# Altium integrated library HL Светодиоды_V2.3 BVI.IntLib: 83 symbols
Pins are listed as number, name and electrical type; pins without a type are passive.

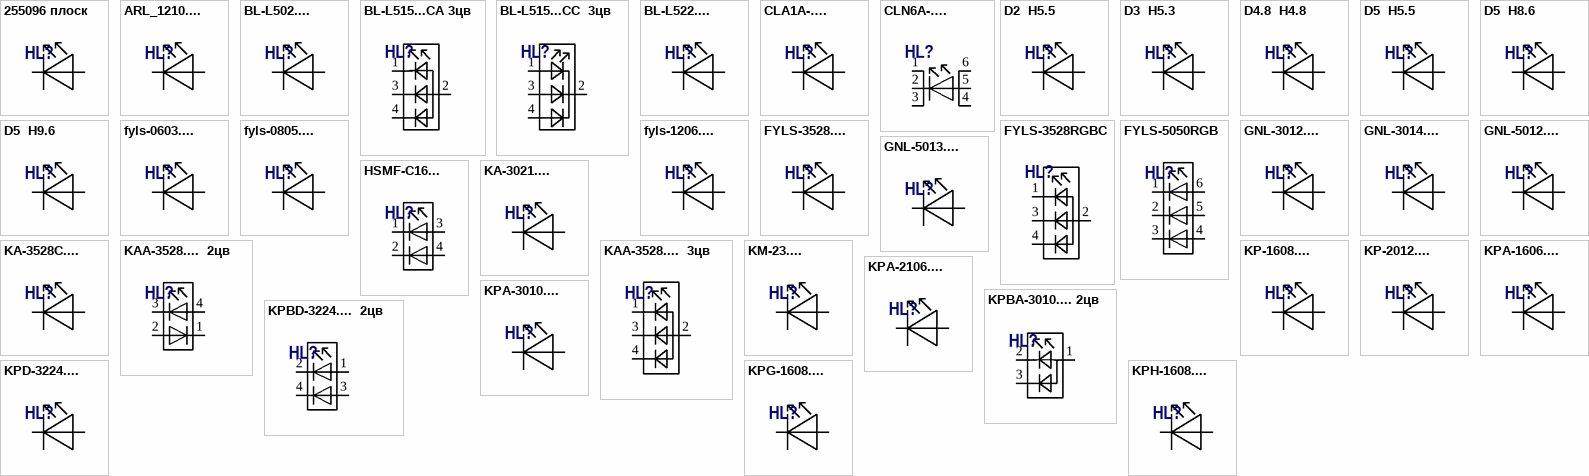
[diagram p0: symbols 255096 плоск to KPH-1608....]

## 255096 плоск
designator HL?, comment ???  (value not drawn)
Св. д. плоский 2.5 х 5.0 х 9.6
footprint СД_255096_YX бел (Св. д. 5 x 2.5 мм бел)
footprint СД_255096_YX жел (Св. д. 5 x 2.5 мм жел.)
footprint СД_255096_YX зел (Св. д. 5 x 2.5 мм зел.)
footprint СД_255096_YX кр (Св. д. 5 x 2.5 мм кр.)
footprint СД_255096_YX оран (Св. д. 5 x 2.5 мм оран)
footprint СД_255096_YZ бел (Св. д. 5 x 2.5 мм бел)
footprint СД_255096_YZ жел (Св. д. 5 x 2.5 мм жел.)
footprint СД_255096_YZ зел (Св. д. 5 x 2.5 мм зел.)
footprint СД_255096_YZ кр (Св. д. 5 x 2.5 мм кр.)
footprint СД_255096_YZ оран (Св. д. 5 x 2.5 мм оран)
footprint СД_255096_Z бел (Св. д. 5 x 2.5 мм бел)
footprint СД_255096_Z жел (Св. д. 5 x 2.5 мм жел.)
footprint СД_255096_Z зел (Св. д. 5 x 2.5 мм зел.)
footprint СД_255096_Z кр (Св. д. 5 x 2.5 мм кр.)
footprint СД_255096_Z оран (Св. д. 5 x 2.5 мм оран)
pins: 1 K, 2 A

## ARL_1210....
designator HL?, comment ARL-1210???  (value not drawn)
Св. д. ЧИП 3528
footprint СД_SMD 3528_140 (Светодиод SMD_3528_2к)
pins: 1 K, 2 A

## BL-L502....
designator HL?, comment BL-L502???  (value not drawn)
Св. д. D5 H8.6
footprint СД_D5_8.6_Y бел (Светодиод белый D5 H8.6  горизонт.)
footprint СД_D5_8.6_Z бел (Светодиод белый D5 H8.6  вертик.)
pins: 1 K, 2 A

## BL-L515...CA 3цв
designator HL?, comment BL-L515???  (value not drawn)
Св. д. D5 H8.6 RGB. Общ. анод
footprint СД_(BL-L515RGB)_Y (Св. д. 3 цвета)
footprint СД_(BL-L515RGB)_Z (Св. д. 3 цвета)
pins: 1 К1, 2 А, 3 К2, 4 К3

## BL-L515...CC  3цв
designator HL?, comment BL-L515???  (value not drawn)
Св. д. D5 H8.6 RGB. Общ. катод
footprint СД_(BL-L515RGB)_Y (Св. д. 3 цвета)
footprint СД_(BL-L515RGB)_Z (Св. д. 3 цвета)
pins: 1 A1, 2 K, 3 A2, 4 A3

## BL-L522....
designator HL?, comment BL-L522???  (value not drawn)
Св. д. D5 H8.6
footprint СД_D5_8.6_Y бел (Светодиод белый D5 H8.6  горизонт.)
footprint СД_D5_8.6_Z бел (Светодиод белый D5 H8.6  вертик.)
pins: 1 K, 2 A

## CLA1A-….
designator HL?, comment CLA1A-???  (value not drawn)
Св. д. ЧИП 3528  4 контакта
footprint СД_SMD 3528_190 4к 1ц (Светодиод SMD_3528_4к)
pins: 2 A, 4 K

## CLN6A-….
designator HL?, comment CLN6A-???  (value not drawn)
Св. д. ЧИП 5050  6 контактов
footprint СД_SMD 5050_6к 1д (Светодиод SMD_5050_6к)
pins: 1 K, 2 K, 3 K, 4 A, 5 A, 6 A

## D2  H5.5
designator HL?, comment ???  (value not drawn)
Св. д. D2 H5.5
footprint СД_D2_5.5_Y жел (Св. д. D2 мм жел.)
footprint СД_D2_5.5_Y зел (Св. д. D2 мм зел.)
footprint СД_D2_5.5_Y кр (Св. д. D2 мм кр.)
footprint СД_D2_5.5_Z жел (Св. д. D2 мм жел.)
footprint СД_D2_5.5_Z зел (Св. д. D2 мм зел.)
footprint СД_D2_5.5_Z кр (Св. д. D2 мм кр.)
pins: 1 K, 2 A

## D3  H5.3
designator HL?, comment ???  (value not drawn)
Св. д. D3 H5
footprint СД_D3_5.3_Z бел (Св. д.  D3 H5,3 бел.)
footprint СД_D3_5.3_Z жел (Св. д.  D3 H5,3 жел.)
footprint СД_D3_5.3_Z зел (Св. д.  D3 H5,3 зел.)
footprint СД_D3_5.3_Z кр (Св. д.  D3 H5,3 кр.)
footprint СД_D3_5.3_Z оран (Св. д.  D3 H5,3 оран.)
footprint СД_D3_5.3_Z син (Св. д.  D3 H5,3 син.)
footprint СД_D3_5.3_Y бел (Св. д.  D3 H5.3 бел.)
footprint СД_D3_5.3_Y жел (Св. д.  D3 H5.3 жел.)
footprint СД_D3_5.3_Y зел (Св. д.  D3 H5.3 зел.)
footprint СД_D3_5.3_Y кр (Св. д.  D3 H5.3 кр.)
footprint СД_D3_5.3_Y оран (Св. д.  D3 H5.3 оран.)
footprint СД_D3_5.3_Y син (Св. д.  D3 H5.3 син.)
pins: 1 K, 2 A

## D4.8  H4.8
designator HL?, comment ???  (value not drawn)
Св. д. D4.8  H4.8
footprint СД_D4.8_4.8_Y бел (Св. д.  D4.8 H4.8 бел)
footprint СД_D4.8_4.8_Y жел (Св. д.  D4.8 H4.8 жел)
footprint СД_D4.8_4.8_Y зел (Св. д.  D4.8 H4.8 зел)
footprint СД_D4.8_4.8_Y кр (Св. д.  D4.8 H4.8 кр)
footprint СД_D4.8_4.8_Y оран (Св. д.  D4.8 H4.8 оран)
footprint СД_D4.8_4.8_Y син (Св. д.  D4.8 H4.8 син)
footprint СД_D4.8_4.8_Z бел (Св. д.  D4.8 H4.8 бел)
footprint СД_D4.8_4.8_Z жел (Св. д.  D4.8 H4.8 жел)
footprint СД_D4.8_4.8_Z зел (Св. д.  D4.8 H4.8 зел)
footprint СД_D4.8_4.8_Z кр (Св. д.  D4.8 H4.8 кр)
footprint СД_D4.8_4.8_Z оран (Св. д.  D4.8 H4.8 оран)
footprint СД_D4.8_4.8_Z син (Св. д.  D4.8 H4.8 син)
pins: 1 K, 2 A

## D5  H5.5
designator HL?, comment ???  (value not drawn)
Св. д. D5 H5.5
footprint СД_D5_5.5_Y бел (Светодиод синий D5 H8.6  вертик.)
footprint СД_D5_5.5_Y жел (Светодиод синий D5 H8.6  вертик.)
footprint СД_D5_5.5_Y зел (Светодиод синий D5 H8.6  вертик.)
footprint СД_D5_5.5_Y кр (Светодиод синий D5 H8.6  вертик.)
footprint СД_D5_5.5_Y оран (Светодиод синий D5 H8.6  вертик.)
footprint СД_D5_5.5_Y син (Светодиод синий D5 H8.6  вертик.)
footprint СД_D5_5.5_Z бел (Светодиод синий D5 H8.6  вертик.)
footprint СД_D5_5.5_Z жел (Светодиод синий D5 H8.6  вертик.)
footprint СД_D5_5.5_Z зел (Светодиод синий D5 H8.6  вертик.)
footprint СД_D5_5.5_Z кр (Светодиод синий D5 H8.6  вертик.)
footprint СД_D5_5.5_Z оран (Светодиод синий D5 H8.6  вертик.)
footprint СД_D5_5.5_Z син (Светодиод синий D5 H8.6  вертик.)
pins: 1 K, 2 A

## D5  H8.6
designator HL?, comment ???  (value not drawn)
Св. д. D5 H8.6
footprint СД_D5_8.6_Y бел (Светодиод белый D5 H8.6  горизонт.)
footprint СД_D5_8.6_Y жел (Светодиод желт. D5 H8.6  горизонт.)
footprint СД_D5_8.6_Y зел (Светодиод зелёный D5 H8.6  горизонт.)
footprint СД_D5_8.6_Y кр (Светодиод красный D5 H8.6  горизонт.)
footprint СД_D5_8.6_Y оран (Светодиод оранж. D5 H8.6  горизонт.)
footprint СД_D5_8.6_Y син (Светодиод синий D5 H8.6  горизонт.)
footprint СД_D5_8.6_Z бел (Светодиод белый D5 H8.6  вертик.)
footprint СД_D5_8.6_Z жел (Светодиод желт. D5 H8.6  вертик.)
footprint СД_D5_8.6_Z зел (Светодиод зел. D5 H8.6  вертик.)
footprint СД_D5_8.6_Z кр (Светодиод красн. D5 H8.6  вертик.)
footprint СД_D5_8.6_Z оран (Светодиод оранж. D5 H8.6  вертик.)
footprint СД_D5_8.6_Z син (Светодиод синий D5 H8.6  вертик.)
pins: 1 K, 2 A

## D5  H9.6
designator HL?, comment ???  (value not drawn)
Св. д. D5 H9.6
footprint СД_D5_9.6_Y бел (Св. д.  D5 H9.6  бел)
footprint СД_D5_9.6_Y жел (Св. д.  D5 H9.6  жел)
footprint СД_D5_9.6_Y зел (Св. д.  D5 H9.6  зел)
footprint СД_D5_9.6_Y кр (Св. д.  D5 H9.6  кр)
footprint СД_D5_9.6_Y оран (Св. д.  D5 H9.6  оран)
footprint СД_D5_9.6_Z бел (Св. д.  D5 H9.6  бел)
footprint СД_D5_9.6_Z жел (Св. д.  D5 H9.6  жел)
footprint СД_D5_9.6_Z зел (Св. д.  D5 H9.6  зел)
footprint СД_D5_9.6_Z кр (Св. д.  D5 H9.6  кр)
footprint СД_D5_9.6_Z оран (Св. д.  D5 H9.6  оран)
pins: 1 K, 2 A

## fyls-0603....
designator HL?, comment fyls-0603???  (value not drawn)
Св. д. ЧИП 1608 (0603)
footprint СД_SMD 1608_080
pins: 1 K, 2 A

## fyls-0805....
designator HL?, comment fyls-0805???  (value not drawn)
Св. д. ЧИП 2012 (0805)
footprint СД_SMD 2012_110
pins: 1 K, 2 A

## fyls-1206....
designator HL?, comment fyls-1206???  (value not drawn)
Св. д. ЧИП 3216 (1206)
footprint СД_SMD 3216_110
pins: 1 K, 2 A

## FYLS-3528....
designator HL?, comment FYLS-3528???  (value not drawn)
Св. д. ЧИП 3528
footprint СД_SMD 3528_140 (Светодиод SMD_3528_2к)
pins: 1 K, 2 A

## FYLS-3528RGBC
designator HL?  (value not drawn)
Св. д. ЧИП 3528 RGB. Общ. анод
footprint СД_SMD 3528_190 4к 3ц (Светодиод SMD_3528_4к)
pins: 1 K1, 2 A, 3 K2, 4 K3

## FYLS-5050RGB
designator HL?  (value not drawn)
Св. д. ЧИП 5050  3цв  6 контактов
footprint СД_SMD 5050_6к_3д (Светодиод SMD_5050_6к)
pins: 1 К1, 2 К2, 3 К3, 4 А3, 5 А2, 6 А1

## GNL-3012....
designator HL?, comment GNL-3012???  (value not drawn)
Св. д. D3 H5
footprint СД_D3_5.3_Z жел (Св. д.  D3 H5,3 жел.)
footprint СД_D3_5.3_Z зел (Св. д.  D3 H5,3 зел.)
footprint СД_D3_5.3_Z кр (Св. д.  D3 H5,3 кр.)
footprint СД_D3_5.3_Z оран (Св. д.  D3 H5,3 оран.)
footprint СД_D3_5.3_Y жел (Св. д.  D3 H5.3 жел.)
footprint СД_D3_5.3_Y зел (Св. д.  D3 H5.3 зел.)
footprint СД_D3_5.3_Y кр (Св. д.  D3 H5.3 кр.)
footprint СД_D3_5.3_Y оран (Св. д.  D3 H5.3 оран.)
pins: 1 K, 2 A

## GNL-3014....
designator HL?, comment GNL-3014???  (value not drawn)
Св. д. D3 H5
footprint СД_D3_5.3_Z жел (Св. д.  D3 H5.3 жел.)
footprint СД_D3_5.3_Z зел (Св. д.  D3 H5.3 зел.)
footprint СД_D3_5.3_Z кр (Св. д.  D3 H5.3 кр.)
footprint СД_D3_5.3_Z оран (Св. д.  D3 H5.3 оран.)
footprint СД_D3_5.3_Z бел (Св. д.  D3 H5.3 бел.)
footprint СД_D3_5.3_Y бел (Св. д.  D3 H5.3 бел.)
footprint СД_D3_5.3_Y жел (Св. д.  D3 H5.3 жел.)
footprint СД_D3_5.3_Y зел (Св. д.  D3 H5.3 зел.)
footprint СД_D3_5.3_Y кр (Св. д.  D3 H5.3 кр.)
footprint СД_D3_5.3_Y оран (Св. д.  D3 H5.3 оран.)
pins: 1 K, 2 A

## GNL-5012....
designator HL?, comment GNL-5012???  (value not drawn)
Св. д. D5 H8.6
footprint СД_D5_8.6_Y жел (Светодиод желт. D5 H8.6  горизонт.)
footprint СД_D5_8.6_Y зел (Светодиод зелёный D5 H8.6  горизонт.)
footprint СД_D5_8.6_Y кр (Светодиод красный D5 H8.6  горизонт.)
footprint СД_D5_8.6_Y оран (Светодиод оранж. D5 H8.6  горизонт.)
footprint СД_D5_8.6_Z жел (Светодиод желт. D5 H8.6  вертик.)
footprint СД_D5_8.6_Z зел (Светодиод зел. D5 H8.6  вертик.)
footprint СД_D5_8.6_Z кр (Светодиод красн. D5 H8.6  вертик.)
footprint СД_D5_8.6_Z оран (Светодиод оранж. D5 H8.6  вертик.)
pins: 1 K, 2 A

## GNL-5013....
designator HL?, comment GNL-5013???  (value not drawn)
Св. д. D5 H8.6
footprint СД_D5_8.6_Y жел (Светодиод желт. D5 H8.6  горизонт.)
footprint СД_D5_8.6_Y зел (Светодиод зелёный D5 H8.6  горизонт.)
footprint СД_D5_8.6_Y кр (Светодиод красный D5 H8.6  горизонт.)
footprint СД_D5_8.6_Y оран (Светодиод оранж. D5 H8.6  горизонт.)
footprint СД_D5_8.6_Z жел (Светодиод желт. D5 H8.6  вертик.)
footprint СД_D5_8.6_Z зел (Светодиод зел. D5 H8.6  вертик.)
footprint СД_D5_8.6_Z кр (Светодиод красн. D5 H8.6  вертик.)
footprint СД_D5_8.6_Z оран (Светодиод оранж. D5 H8.6  вертик.)
pins: 1 K, 2 A

## HSMF-C16...
designator HL?, comment HSMF-C16???  (value not drawn)
Св. д. ЧИП 1608  2цв  4 конт
footprint СД_SMD 1608_050 4к
pins: 1 К1, 2 К2, 3 А1, 4 А2

## KA-3021....
designator HL?, comment KA-3021???  (value not drawn)
Св. д. ЧИП 3020
footprint СД_SMD 3020_130
pins: 1 K, 2 A

## KA-3528C....
designator HL?, comment KA-3528C???  (value not drawn)
Св. д. ЧИП 3528
footprint СД_SMD 3528_140 (Светодиод SMD_3528_2к)
pins: 1 K, 2 A

## KAA-3528....  2цв
designator HL?, comment KAA-3528???  (value not drawn)
Св. д. ЧИП 3528  2цв  4 конт
footprint СД_SMD 3528_190 4к 3ц (Светодиод SMD_3528_4к)
pins: 1 К2, 2 А2, 3 К1, 4 А1

## KAA-3528....  3цв
designator HL?, comment KAA-3528EMBSGCT  (value not drawn)
Св. д. ЧИП 3528 RGB. Общ. анод
footprint СД_SMD 3528_190 4к 3ц (Светодиод SMD_3528_4к)
pins: 1 K1, 2 A, 3 K2, 4 K3

## KM-23....
designator HL?, comment KM-23S???  (value not drawn)
Св. д. ЧИП SOT-23
footprint СД_SMD (SOT-23) (TO-236AB   SuperSOT-3   SOT-346   KT-46   SC-59   SMT3)
pins: 1 A, 3 K

## KP-1608....
designator HL?, comment KP-1608???  (value not drawn)
Св. д. ЧИП 1608
footprint СД_SMD 1608_075
pins: 1 K, 2 A

## KP-2012....
designator HL?, comment KP-2012???  (value not drawn)
Св. д. ЧИП 2012
footprint СД_SMD 1608_075
pins: 1 K, 2 A

## KPA-1606....
designator HL?, comment KPA-1606???  (value not drawn)
Св. д. ЧИП 1606
footprint СД_SMD 1606_120
pins: 1 K, 2 A

## KPA-2106....
designator HL?, comment KPA-2106???  (value not drawn)
Св. д. ЧИП 2106
footprint СД_SMD 2106_100
pins: 1 K, 2 A

## KPA-3010....
designator HL?, comment KPA-3010???  (value not drawn)
Св. д. ЧИП 3010
footprint СД_SMD 3010_200
pins: 1 K, 2 A

## KPBA-3010.... 2цв
designator HL?, comment KPBA-3010???  (value not drawn)
Св. д. ЧИП 3010  2цв.  3к
footprint СД_SMD 3010_200 3к
pins: 1 А, 2 К1, 3 К2

## KPBD-3224....  2цв
designator HL?, comment KPBD-3224???  (value not drawn)
Св. д. ЧИП 3224  2цв  4 конт
footprint СД_SMD 3224_240 4к
pins: 1 А1, 2 К1, 3 A2, 4 K2

## KPD-3224....
designator HL?, comment KPD-3224???  (value not drawn)
Св. д. ЧИП 3224
footprint СД_SMD 3224_240
pins: 1 K, 2 A

## KPG-1608....
designator HL?, comment KPG-1608???  (value not drawn)
Св. д. ЧИП 1608
footprint СД_SMD 1608_025
pins: 1 K, 2 A

## KPH-1608....
designator HL?, comment KPH-1608???  (value not drawn)
Св. д. ЧИП 1608
footprint СД_SMD 1608_065
pins: 1 K, 2 A

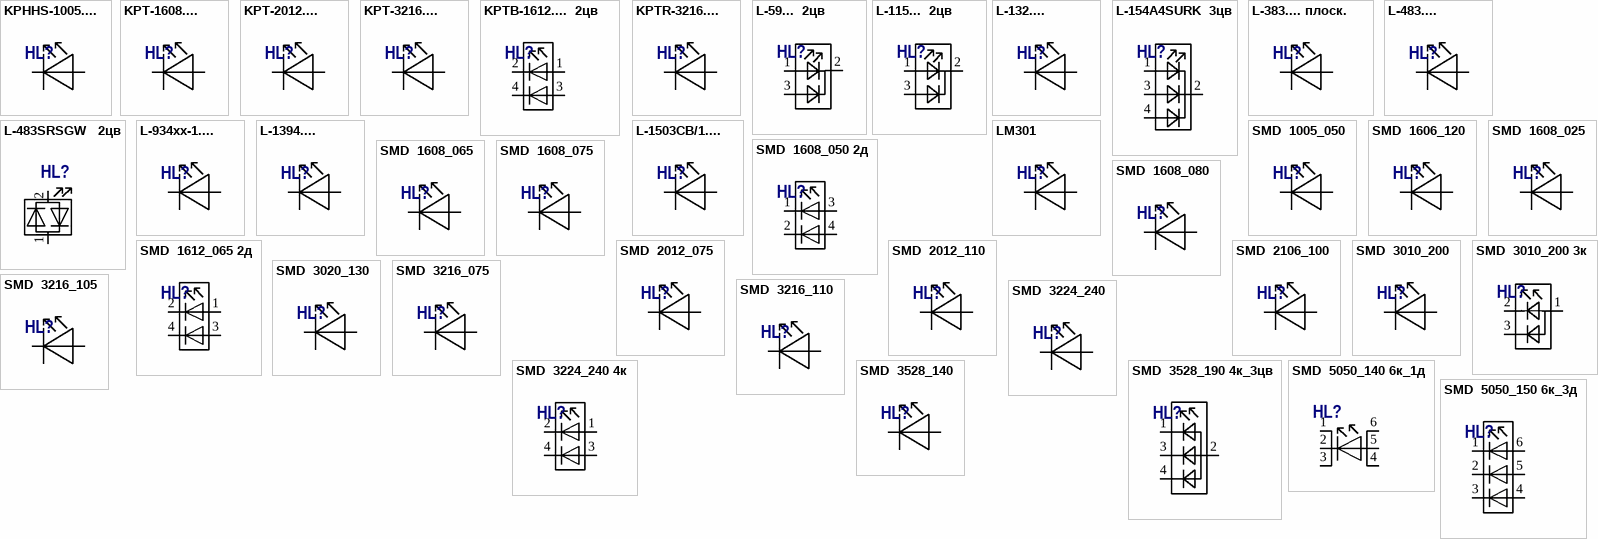
[diagram p1: symbols KPHHS-1005.... to SMD  5050_150 6к_3д]

## KPHHS-1005....
designator HL?, comment KPHHS-1005???  (value not drawn)
Св. д. ЧИП 1050
footprint СД_SMD 1005_050
pins: 1 K, 2 A

## KPT-1608....
designator HL?, comment KPT-1608???  (value not drawn)
Св. д. ЧИП 1608
footprint СД_SMD 1608_075
pins: 1 K, 2 A

## KPT-2012....
designator HL?, comment KPT-2012???  (value not drawn)
Св. д. ЧИП 2012
footprint СД_SMD 2012_075
pins: 1 K, 2 A

## KPT-3216....
designator HL?, comment KPT-3216???  (value not drawn)
Св. д. ЧИП 3216
footprint СД_SMD 3216_075
pins: 1 K, 2 A

## KPTB-1612....  2цв
designator HL?, comment KPTB-1612???  (value not drawn)
Св. д. ЧИП 1612  2цв  4 конт
footprint СД_SMD 1612_065 2д
pins: 1 А1, 2 К1, 3 A2, 4 K2

## KPTR-3216....
designator HL?, comment KPTR-3216???  (value not drawn)
Св. д. ЧИП 3216
footprint СД_SMD 3216_105
pins: 1 K, 2 A

## L-59...  2цв
designator HL?, comment L-59???  (value not drawn)
Св. д. D5 H8.6   2 цвета
footprint СД_D5_8.6_Y 3к (Св. д. 2 цвета)
footprint СД_D5_8.6_Z 3к (Св. д. 2 цвета)
pins: 1 A1, 2 K, 3 A2

## L-115...  2цв
designator HL?, comment L-115???  (value not drawn)
Св. д. D3 H5  2 цвета
footprint СД_(L-115xxx)_Y (Св. д. 2 цвета)
footprint СД_(L-115xxx)_Z (Св. д. 2 цвета)
pins: 1 A1, 2 K, 3 A2

## L-132....
designator HL?, comment L-132???  (value not drawn)
Св. д. D3 H5
footprint СД_(L-132XGх)_Y зел (Св. д. D3.5 мм зел.)
footprint СД_(L-132XGх)_Z зел (Св. д. D3.5 мм зел.)
footprint СД_(L-132XH [I] х)_Y кр (Св. д. D3.5 мм кр.)
footprint СД_(L-132XH [I] х)_Z кр (Св. д. D3.5 мм кр.)
footprint СД_(L-132XYх)_Y жел (Св. д. D3.5 мм жел)
footprint СД_(L-132XYх)_Z жел (Св. д. D3.5 мм жел)
pins: 1 K, 2 A

## L-154A4SURK  3цв
designator HL?, comment L-154A4SURK  (value not drawn)
Св. д. D5 H8.6 RGB. Общ. катод
footprint СД_(BL-L515RGB)_Y (Св. д. 3 цвета)
footprint СД_(BL-L515RGB)_Z (Св. д. 3 цвета)
pins: 1 A1, 2 K, 3 A2, 4 A3

## L-383.... плоск.
designator HL?, comment L-383???  (value not drawn)
Св. д. 2.5 х 5.0 х 9.6
footprint СД_255096_YX бел (Св. д. 5 x 2.5 мм бел)
footprint СД_255096_YX жел (Св. д. 5 x 2.5 мм жел.)
footprint СД_255096_YX зел (Св. д. 5 x 2.5 мм зел.)
footprint СД_255096_YX кр (Св. д. 5 x 2.5 мм кр.)
footprint СД_255096_YX оран (Св. д. 5 x 2.5 мм оран)
footprint СД_255096_YZ бел (Св. д. 5 x 2.5 мм бел)
footprint СД_255096_YZ жел (Св. д. 5 x 2.5 мм жел.)
footprint СД_255096_YZ зел (Св. д. 5 x 2.5 мм зел.)
footprint СД_255096_YZ кр (Св. д. 5 x 2.5 мм кр.)
footprint СД_255096_YZ оран (Св. д. 5 x 2.5 мм оран)
footprint СД_255096_Z бел (Св. д. 5 x 2.5 мм бел)
footprint СД_255096_Z жел (Св. д. 5 x 2.5 мм жел.)
footprint СД_255096_Z зел (Св. д. 5 x 2.5 мм зел.)
footprint СД_255096_Z кр (Св. д. 5 x 2.5 мм кр.)
footprint СД_255096_Z оран (Св. д. 5 x 2.5 мм оран)
pins: 1 K, 2 A

## L-483....
designator HL?, comment L-483???  (value not drawn)
Св. д. D5 H9.6
footprint СД_D5_9.6_Y жел (Св. д.  D5 H9.6  жел)
footprint СД_D5_9.6_Y зел (Св. д.  D5 H9.6  зел)
footprint СД_D5_9.6_Y кр (Св. д.  D5 H9.6  кр)
footprint СД_D5_9.6_Y оран (Св. д.  D5 H9.6  оран)
footprint СД_D5_9.6_Z жел (Св. д.  D5 H9.6  жел)
footprint СД_D5_9.6_Z зел (Св. д.  D5 H9.6  зел)
footprint СД_D5_9.6_Z кр (Св. д.  D5 H9.6  кр)
footprint СД_D5_9.6_Z оран (Св. д.  D5 H9.6  оран)
pins: 1 K, 2 A

## L-483SRSGW   2цв
designator HL?, comment L-483SRSGW  (value not drawn)
Св. д. D5 H9.6  2цв
footprint СД_D5_9.6_Y бел (Св. д.  D5 H9.6  бел)
footprint СД_D5_9.6_Z бел (Св. д.  D5 H9.6  бел)
pins: 1 АК1, 2 КА2

## L-934хх-1....
designator HL?, comment L-934хх-1???  (value not drawn)
Св. д. в корпусе
footprint СД_(L-934C (E) B_1GD) зел. (Св. д. Корпус зел.)
footprint СД_(L-934C (E) B_1ID) кр. (Св. д. Корпус кр.)
footprint СД_(L-934C (E) B_1YD) жел. (Св. д. Корпус жел.)
pins: 1 K, 2 A

## L-1394....
designator HL?, comment L-1394???  (value not drawn)
Св. д. D2 H5.5
footprint СД_D2_5.5_Y жел (Св. д. D2 мм жел.)
footprint СД_D2_5.5_Y зел (Св. д. D2 мм зел.)
footprint СД_D2_5.5_Y кр (Св. д. D2 мм кр.)
footprint СД_D2_5.5_Z жел (Св. д. D2 мм жел.)
footprint СД_D2_5.5_Z зел (Св. д. D2 мм зел.)
footprint СД_D2_5.5_Z кр (Св. д. D2 мм кр.)
pins: 1 K, 2 A

## L-1503CB/1....
designator HL?, comment L-1503CB/1???  (value not drawn)
Св. д. в корпусе
footprint СД_ (L-1503CB_1GD)_зел (Св. д. Корпус зел.)
footprint СД_ (L-1503CB_1ID)_кр (Св. д. Корпус кр.)
footprint СД_ (L-1503CB_1YD)_жел (Св. д. Корпус жел.)
pins: 1 K, 2 A

## LM301
designator HL?, comment ???  (value not drawn)
Светодиод повышенной яркости   LM301x   Series   Белый   120 °   40 лм   3000 K   200 мА
footprint СД_LM301 B
pins: 1 K, 2 A

## SMD  1005_050
designator HL?, comment ???  (value not drawn)
Св. д. ЧИП 1005  H0.5
footprint СД_SMD 1005_050
pins: 1 K, 2 A

## SMD  1606_120
designator HL?, comment ???  (value not drawn)
Св. д. ЧИП 1606
footprint СД_SMD 1606_120
pins: 1 K, 2 A

## SMD  1608_025
designator HL?, comment ???  (value not drawn)
Св. д. ЧИП 1608 (0603)
footprint СД_SMD 1608_025
pins: 1 K, 2 A

## SMD  1608_050 2д
designator HL?, comment ???  (value not drawn)
Св. д. ЧИП 1608  2цв  4 конт
footprint СД_SMD 1608_050 4к
pins: 1 К1, 2 К2, 3 А1, 4 А2

## SMD  1608_065
designator HL?, comment ???  (value not drawn)
Св. д. ЧИП 1608 (0603)
footprint СД_SMD 1608_065
pins: 1 K, 2 A

## SMD  1608_075
designator HL?, comment ???  (value not drawn)
Св. д. ЧИП 1608 (0603)
footprint СД_SMD 1608_075
pins: 1 K, 2 A

## SMD  1608_080
designator HL?, comment ???  (value not drawn)
Св. д. ЧИП 1608 (0603)
footprint СД_SMD 1608_080
pins: 1 K, 2 A

## SMD  1612_065 2д
designator HL?, comment ???  (value not drawn)
Св. д. ЧИП 1612  2цв  4 конт
footprint СД_SMD 1612_065 2д
pins: 1 А1, 2 К1, 3 К2, 4 А2

## SMD  2012_075
designator HL?, comment ???  (value not drawn)
Св. д. ЧИП 2012
footprint СД_SMD 2012_075
pins: 1 K, 2 A

## SMD  2012_110
designator HL?, comment ???  (value not drawn)
Св. д. ЧИП 2012 (0805)
footprint СД_SMD 2012_110
pins: 1 K, 2 A

## SMD  2106_100
designator HL?, comment ???  (value not drawn)
Св. д. ЧИП 2106
footprint СД_SMD 2106_100
pins: 1 K, 2 A

## SMD  3010_200
designator HL?, comment ???  (value not drawn)
Св. д. ЧИП 3010
footprint СД_SMD 3010_200
pins: 1 K, 2 A

## SMD  3010_200 3к
designator HL?, comment ???  (value not drawn)
Св. д. ЧИП 3010   3к
footprint СД_SMD 3010_200 3к
pins: 1 А, 2 К1, 3 К2

## SMD  3020_130
designator HL?, comment ???  (value not drawn)
Св. д. ЧИП 3020
footprint СД_SMD 3020_130
pins: 1 K, 2 A

## SMD  3216_075
designator HL?, comment ???  (value not drawn)
Св. д. ЧИП 3216  H0.75
footprint СД_SMD 3216_075
pins: 1 K, 2 A

## SMD  3216_105
designator HL?, comment ???  (value not drawn)
Св. д. ЧИП 3216  H1.05
footprint СД_SMD 3216_105
pins: 1 K, 2 A

## SMD  3216_110
designator HL?, comment ???  (value not drawn)
Св. д. ЧИП 3216  H1.10
footprint СД_SMD 3216_110
pins: 1 K, 2 A

## SMD  3224_240
designator HL?, comment ???  (value not drawn)
Св. д. ЧИП 3224
footprint СД_SMD 3224_240
pins: 1 K, 2 A

## SMD  3224_240 4к
designator HL?, comment ???  (value not drawn)
Св. д. ЧИП 3224  2цв  4 конт
footprint СД_SMD 3224_240 4к
pins: 1 А1, 2 К1, 3 A2, 4 K2

## SMD  3528_140
designator HL?, comment ???  (value not drawn)
Св. д. ЧИП 3528  H1.40
footprint СД_SMD 3528_140 (Светодиод SMD_3528_2к)
pins: 1 K, 2 A

## SMD  3528_190 4к_3цв
designator HL?, comment ???  (value not drawn)
Св. д. ЧИП 3528 RGB. Общ. анод
footprint СД_SMD 3528_190 4к 3ц (Светодиод SMD_3528_4к)
pins: 1 K1, 2 A, 3 K2, 4 K3

## SMD  5050_140 6к_1д
designator HL?, comment ???  (value not drawn)
Св. д. ЧИП 5050  6 контактов
footprint СД_SMD 5050_6к 1д (Светодиод SMD_5050_6к)
pins: 1 K, 2 K, 3 K, 4 A, 5 A, 6 A

## SMD  5050_150 6к_3д
designator HL?, comment ???  (value not drawn)
Св. д. ЧИП 5050  3д  6 контактов
footprint СД_SMD 5050_6к_3д (Светодиод SMD_5050_6к)
pins: 1 К1, 2 К2, 3 К3, 4 А3, 5 А2, 6 А1

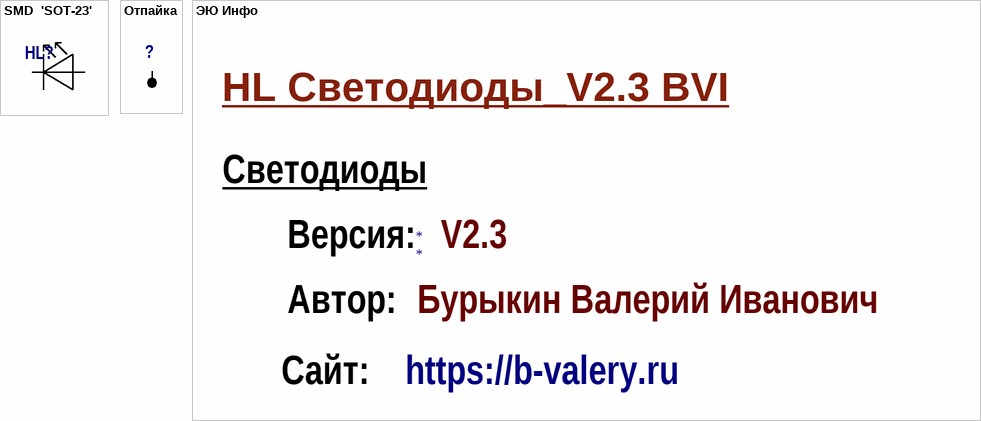
[diagram p2: symbols SMD  'SOT-23' to ЭЮ Инфо]

## SMD  'SOT-23'
designator HL?, comment ???  (value not drawn)
Св. д. ЧИП SOT-23
footprint СД_SMD (SOT-23) (TO-236AB   SuperSOT-3   SOT-346   KT-46   SC-59   SMT3)
pins: 1 A, 3 K

## Отпайка
designator ?  (value not drawn)
Отпайка для проводника
footprint Отпайка 0,5 (D=0.5)
footprint Отпайка 0,8 (D=0.8mm)
footprint Отпайка 1.2 (D=1.2mm)
footprint Отпайка 1.5 (D=1.5mm)
pins: 1

## ЭЮ Инфо
designator *
text: HL Светодиоды_V2.3 BVI; Светодиоды; Версия:; V2.3; Автор:; Бурыкин Валерий Иванович; Сайт:; https://b-valery.ru